# Altium footprint library SOT23_6-SPE-PIC10F320.PcbLib: 1 footprints
Each footprint in its own frame and in the unit in brackets; x right, y up, seen from the top. Pads: shape width x height; smd on the part's side, far side on the other; paste and mask are expansions set on the pad; w line width, h text height; cw(c..) or ccw(c..) is an arc to the next point about the centre after c.
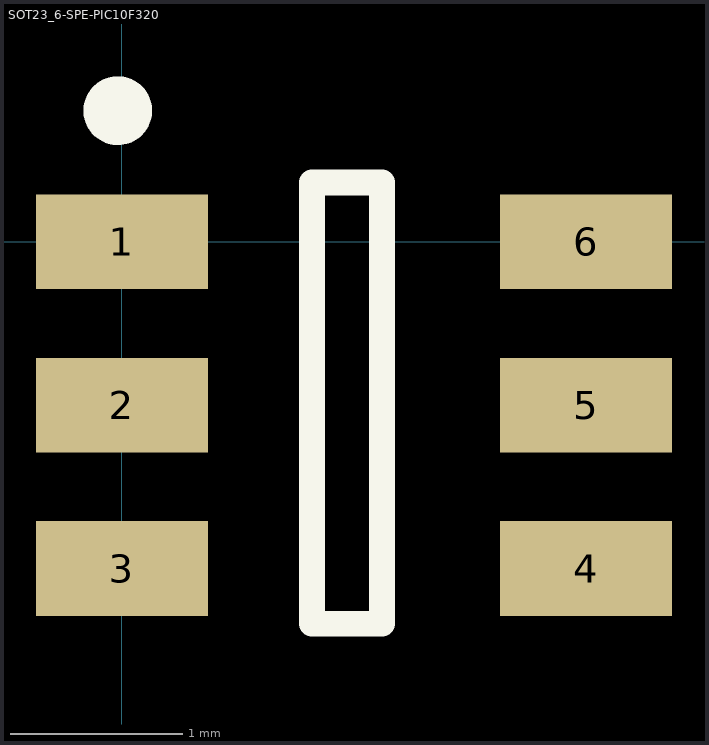
[diagram p0: the footprint, top view; thin cyan lines are the x and y axes]

## SOT23_6-SPE-PIC10F320 [mm]
pads (6):
  rect 1x0.55 smd: 1(0,0) 2(0,-0.95) 3(0,-1.9) 4(2.7,-1.9) 5(2.7,-0.95) 6(2.7,0)
Top Overlay:
  circle w0.2: c-0.024,0.762 r0.1
  lines w0.15: 1.107,-2.221 1.513,-2.221 1.513,0.345 1.107,0.345 1.107,-2.221
3D body: height 1.45, standoff 0, extent -0.054,-2.415 2.746,0.485